# EAGLE library part SMF05C (library lib_stankus)
Semtech SMF05C TVS Farnell #2059033
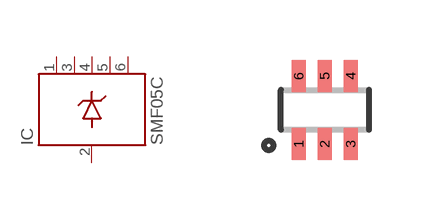
[diagram p48: symbol with the pads of SC70-6; footprint SC70-6]

Designator prefix IC

## SMF05C-SC70-6  [SC70-6]
1  1  pas
2  2  pas
3  3  pas
4  4  pas
5  5  pas
6  6  pas

## Footprint SC70-6 (pad centres in mm)
SC70-6
smd 0.35 x 0.8: 1 -0.65,-0.85; 2 0,-0.85; 3 0.65,-0.85; 4 0.65,0.85; 5 0,0.85; 6 -0.65,0.85